# Altium schematic symbol library DX4R205JJAR1800.SchLib: 2 symbols
Pins are listed as number, name and electrical type; pins without a type are passive.

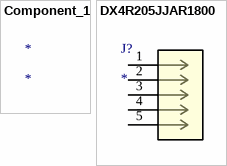
[diagram p0: symbols Component_1 to DX4R205JJAR1800]

## Component_1
designator *

## DX4R205JJAR1800
designator J?
No Description Available; Mfr_Name: JAE Electronics; Type: USB, DVI, HDMI, Connectors; RefDes: RefDes
footprint CONN_DX4R205JJAR1800_JAE
pins: 1, 2, 3, 4, 5